# EAGLE library part AS-ITM-00272 (library tinycircuits)
IC BLUETOOTH LE SM 32QFN
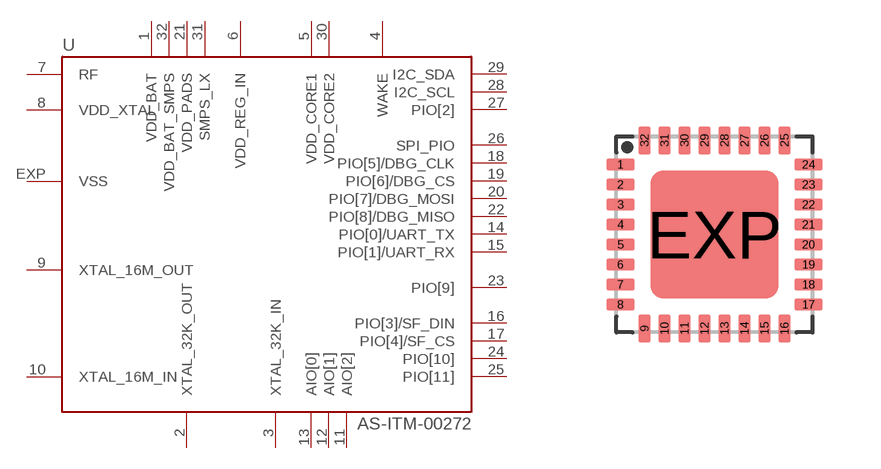
[diagram p107: symbol with the pads of ATMEL_QFN32; footprint ATMEL_QFN32]

Designator prefix U

## AS-ITM-00272 (PARTNO: AS-ITM-00268; VALUE: CSR1010)  [ATMEL_QFN32]
1  VDD_BAT
2  XTAL_32K_OUT
3  XTAL_32K_IN
4  WAKE
5  VDD_CORE1
6  VDD_REG_IN
7  RF
8  VDD_XTAL
9  XTAL_16M_OUT
10  XTAL_16M_IN
11  AIO[2]
12  AIO[1]
13  AIO[0]
14  PIO[0]/UART_TX
15  PIO[1]/UART_RX
16  PIO[3]/SF_DIN
17  PIO[4]/SF_CS
18  PIO[5]/DBG_CLK
19  PIO[6]/DBG_CS
20  PIO[7]/DBG_MOSI
21  VDD_PADS
22  PIO[8]/DBG_MISO
23  PIO[9]
24  PIO[10]
25  PIO[11]
26  SPI_PIO
27  PIO[2]
28  I2C_SCL
29  I2C_SDA
30  VDD_CORE2
31  SMPS_LX
32  VDD_BAT_SMPS
EXP  VSS

## Footprint ATMEL_QFN32 (pad centres in mm)
QFN 32 5 x 5 mm Source: http://datasheets.maxim-ic.com/en/ds/MAX7042.pdf
smd 0.711 x 0.305: 1 -2.351,1.75; 2 -2.351,1.25; 3 -2.351,0.75; 4 -2.351,0.25; 5 -2.351,-0.25; 6 -2.351,-0.75; 7 -2.351,-1.25; 8 -2.351,-1.75; 17 2.351,-1.75; 18 2.351,-1.25; 19 2.351,-0.75; 20 2.351,-0.25; 21 2.351,0.25; 22 2.351,0.75; 23 2.351,1.25; 24 2.351,1.75
smd 0.305 x 0.711: 9 -1.75,-2.351; 10 -1.25,-2.351; 11 -0.75,-2.351; 12 -0.25,-2.351; 13 0.25,-2.351; 14 0.75,-2.351; 15 1.25,-2.351; 16 1.75,-2.351; 25 1.75,2.351; 26 1.25,2.351; 27 0.75,2.351; 28 0.25,2.351; 29 -0.25,2.351; 30 -0.75,2.351; 31 -1.25,2.351; 32 -1.75,2.351
smd 3.2 x 3.2: EXP 0,0